# Altium integrated library GRM21BC81A226ME44K.IntLib: 1 symbol
Pins are listed as number, name and electrical type; pins without a type are passive.

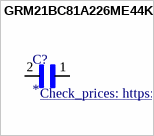
[diagram p0: symbol GRM21BC81A226ME44K]

## GRM21BC81A226ME44K
designator C?
SMD Capacitor X6S(EIA) with Capacitance: 22uF Tol. 20%. Rated Voltage: 10Vdc; MF: Murata; MP: GRM21BC81A226ME44K; Package: 0805 Murata; Mouser-Purchase-URL: https://snapeda.com/shop?store=Mouser&id=1846171; Price: None; Availability: Warning; SnapEDA_Link: https://www.snapeda.com/parts/GRM21BC81A226ME44K/Murata/view-part/1846171/?ref=snap; Value: *; Check_prices: https://www.snapeda.com/parts/GRM21BC81A226ME44K/Murata/view-part/1846171/?ref=eda
footprint CAPC2012X135N
pins: 1, 2